# Altium schematic symbol library SN74CBTD3861.SchLib: 1 symbol
Pins are listed as number, name and electrical type; pins without a type are passive.

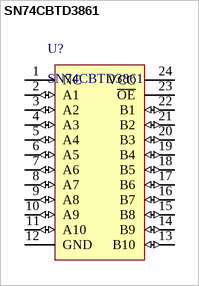
[diagram p0: symbol SN74CBTD3861]

## SN74CBTD3861
designator U?
10-BIT FET BUS SWITCH  WITH LEVEL SHIFTING; Manufacturer: Texas Instruments; Manufacturer Part Number: SN74CBTD3861PWR; Description: IC 10-BIT FET BUS SW 24-TSSOP; Circuit: 10 x 1:1; Independent Circuits: 1; Voltage Supply Source: Single Supply; Voltage - Supply: 4.5 V ~ 5.5 V; Category: Integrated Circuits (ICs); Supplier: Digi-Key; RoHS: RoHS Compliant; Packaging: Tape & Reel (TR); Type: FET Bus Switch; Current - Output High, Low: -; Operating Temperature: -40°C ~ 85°C; Mounting Type: Surface Mount; Package / Case: 24-TSSOP (0.173", 4.40mm Width); Supplier Device Package: 24-TSSOP; Supplier Part Number: 296-6487-2-ND
footprint TSSOP-24 (Footprint not found)
pins: 1 NC, 2 A1 (io), 3 A2 (io), 4 A3 (io), 5 A4 (io), 6 A5 (io), 7 A6 (io), 8 A7 (io), 9 A8 (io), 10 A9 (io), 11 A10 (io), 12 GND, 13 B10 (io), 14 B9 (io), 15 B8 (io), 16 B7 (io), 17 B6 (io), 18 B5 (io), 19 B4 (io), 20 B3 (io), 21 B2 (io), 22 B1 (io), 23 ~{OE}, 24 VCC